# Altium schematic symbol library SCH - INTERFACE - AD ADV7390_1.SCHLIB: 1 symbol
Pins are listed as number, name and electrical type; pins without a type are passive.

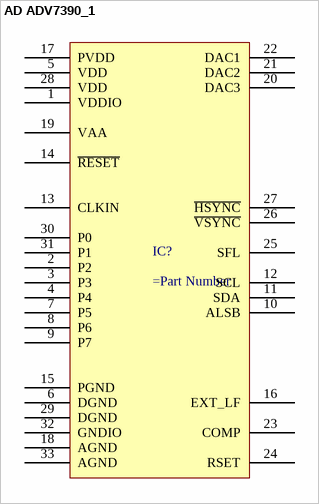
[diagram p0: symbol AD ADV7390_1]

## AD ADV7390_1
designator IC?
pins: 1 VDDIO, 2 P2, 3 P3, 4 P4, 5 VDD, 6 DGND, 7 P5, 8 P6, 9 P7, 10 ALSB, 11 SDA, 12 SCL, 13 CLKIN, 14 ~{RESET}, 15 PGND, 16 EXT_LF, 17 PVDD, 18 AGND, 19 VAA, 20 DAC3, 21 DAC2, 22 DAC1, 23 COMP, 24 RSET, 25 SFL, 26 ~{VSYNC}, 27 ~{HSYNC}, 28 VDD, 29 DGND, 30 P0, 31 P1, 32 GNDIO, 33 AGND